# Altium footprint library UserPcbLib.PcbLib: 107 footprints (part 7 of 7)
Each footprint in its own frame and in the unit in brackets; x right, y up, seen from the top. Pads: shape width x height; smd on the part's side, far side on the other; paste and mask are expansions set on the pad; w line width, h text height; cw(c..) or ccw(c..) is an arc to the next point about the centre after c.
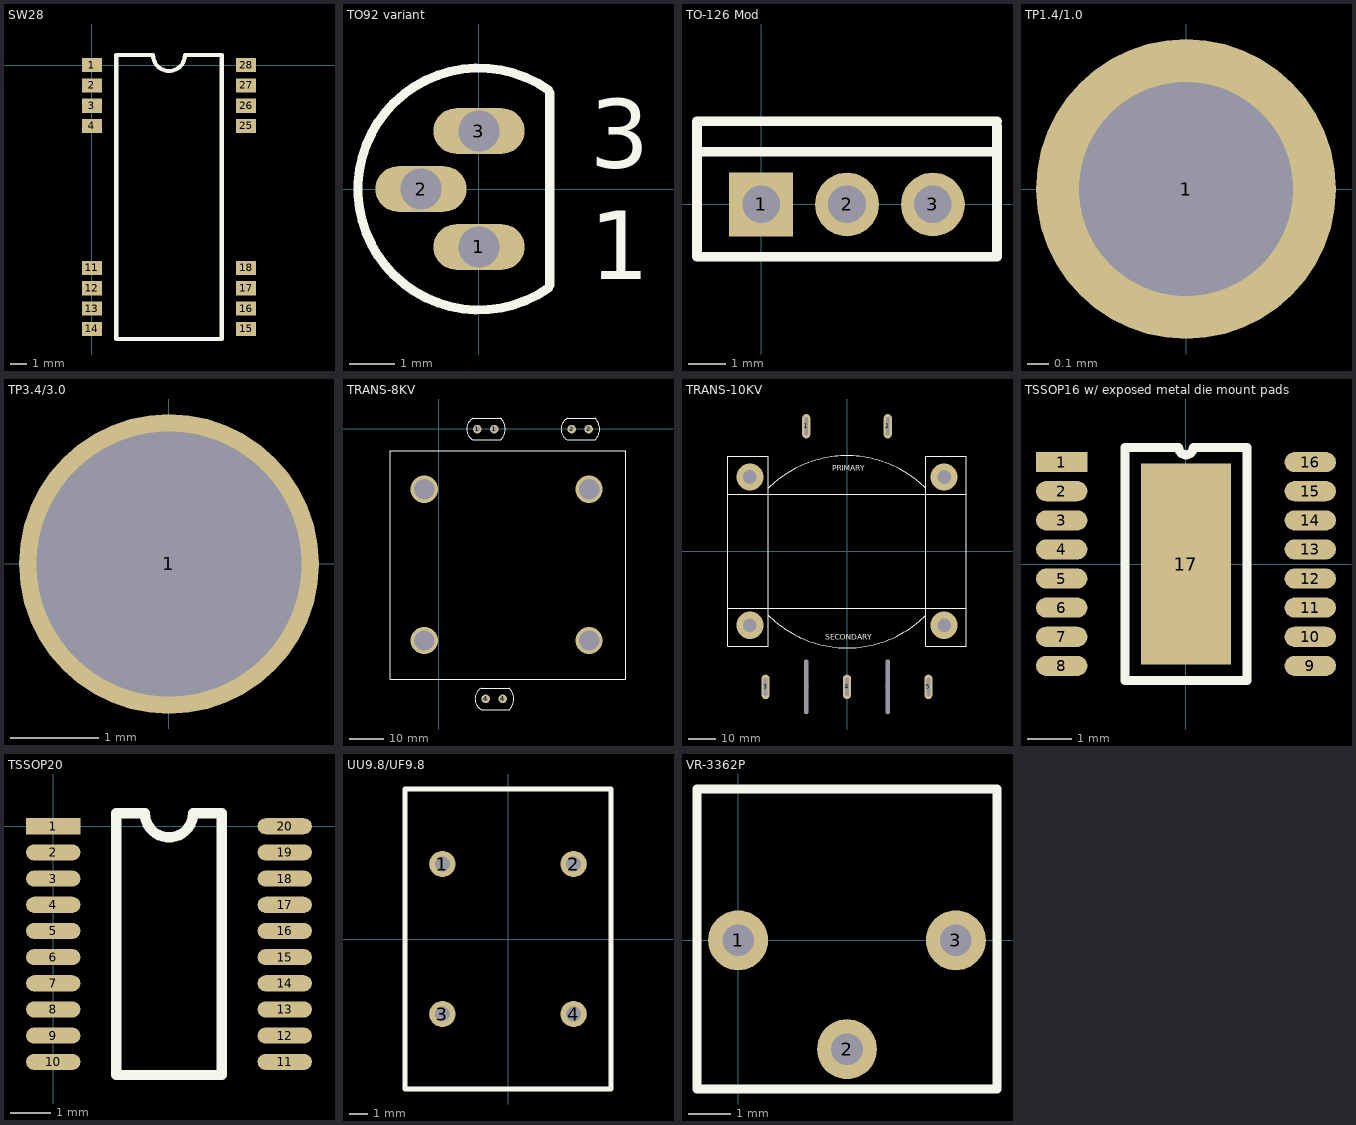
[diagram p6: the footprints below, top view; thin cyan lines are the x and y axes]

## SW28 [mil]
pads (16):
  rect 50x35 smd: 1(0,0) 2(0,-50) 3(0,-100) 4(0,-150) 11(0,-500) 12(0,-550) 13(0,-600) 14(0,-650) 15(380,-650) 16(380,-600) 17(380,-550) 18(380,-500) 25(380,-150) 26(380,-100) 27(380,-50) 28(380,0)
Top Overlay:
  lines w10: 149,25 60,25 60,-675 320,-675 320,25 231,25 ; 150.63,25 ccw(c190,25) 229.37,25

## TO92 variant [mm] "TO, Flat Index;  Axial Leads; Body Dia. 4.8mm; Leads 0.51 x 0.51 mm (max)"
height 5.33
pads (3):
  oval 2x1 hole 0.9: 1(0,-1.27) 2(-1.27,0) 3(0,1.27)
Top Overlay:
  lines w0.2: 1.52,-2.171 cw(c0,0) 1.52,2.171 ; 1.55,-2.1 1.55,2.1
  text "3" at 2.421,0.467 h1.5
  text "1" at 2.421,-1.979 h1.5

## TO-126 Mod [mm]
pads (3):
  rect 1.7x1.7 hole 1: 1(0,0)
  round 1.7 hole 1: 2(2.29,0) 3(4.58,0)
Top Overlay:
  lines w0.254: 6.29,2.096 6.29,1.4 ; 6.29,2.223 -1.71,2.223 -1.71,1.4 ; -1.71,1.4 6.29,1.4 ; -1.71,1.4 -1.71,-1.4 6.29,-1.4 6.29,1.4

## TP1.4/1.0 [mm]
pads (1):
  round 1.4 hole 1: 1(0,0)

## TP3.4/3.0 [mm]
pads (1):
  round 3.4 hole 3: 1(0,0)

## TRANS-8KV [mm] "High voltage transformer w/ centre tap"
height 52
pads (6):
  round 2.5 hole 1.5: 1(11.303,-0.127) 1(16.303,-0.127) 2(38.989,-0.127) 2(43.989,-0.127) 4(13.763,-79.248) 4(18.763,-79.248)
via -4.281,-17.724 diameter 8 hole 6
via 44.119,-17.724 diameter 8 hole 6
via -4.281,-62.124 diameter 8 hole 6
via 44.119,-62.124 diameter 8 hole 6
Top Overlay:
  lines w0.254: 18.216,-3.27 ccw(c15.073,-0.127) 18.216,3.016 ; 18.216,-3.261 10.016,-3.261 cw(c11.771,-0.127) 10.016,3.007 18.216,3.007 ; 20.676,-82.391 ccw(c17.533,-79.248) 20.676,-76.105 ; 20.676,-82.382 12.476,-82.382 cw(c14.231,-79.248) 12.476,-76.114 20.676,-76.114 ; 45.902,-3.27 ccw(c42.759,-0.127) 45.902,3.016 ; 45.902,-3.261 37.702,-3.261 cw(c39.457,-0.127) 37.702,3.007 45.902,3.007 ; -14.177,-73.524 -14.177,-6.524 54.823,-6.524 54.823,-73.524 -14.177,-73.524

## TRANS-10KV [mm] "Transformer 1:25 10KV output"
pads (7):
  round 1.524 hole 1.6 slot 20 at 90 deg unplated: 0(-15,-50) 0(15,-50)
  oval 3x9 hole 1.2 slot 6.6 at 90 deg: 1(-15,46) 2(15,46) 3(-30,-50) 4(0,-50) 5(30,-50)
via -35.75,27.3 diameter 10 hole 5
via 35.75,27.3 diameter 10 hole 5
via 35.75,-27.3 diameter 10 hole 5
via -35.75,-27.3 diameter 10 hole 5
Top Overlay:
  lines w0.2: -44,-21 44,-21 ; -44,21 44,21 ; -44,-35 -29,-35 -29,35 -44,35 -44,-35 ; 29,-35 29,34.925 44,34.925 44,-35 29,-35
  lines w0.254: -29,-23.622 ccw(c0.019,5.397) 29.039,-23.622 ; -29,23.114 cw(c0,-5.886) 29,23.114
  text "PRIMARY" at -5.461,29.591 h2
  text "SECONDARY" at -8.001,-32.639 h2

## TSSOP16 w/ exposed metal die mount pads [mm]
pads (17):
  rect 1.15x0.45 smd: 1(-2.775,2.275)
  oval 1.15x0.45 smd: 2(-2.775,1.625) 3(-2.775,0.975) 4(-2.775,0.325) 5(-2.775,-0.325) 6(-2.775,-0.975) 7(-2.775,-1.625) 8(-2.775,-2.275) 9(2.775,-2.275) 10(2.775,-1.625) 11(2.775,-0.975) 12(2.775,-0.325) 13(2.775,0.325) 14(2.775,0.975) 15(2.775,1.625) 16(2.775,2.275)
  rect 2x4.5 smd: 17(0,0)
Top Overlay:
  lines w0.2: -1.365,-2.6 -1.365,2.6 -0.162,2.6 ccw(c0,2.6) 0.162,2.6 1.365,2.6 1.365,-2.6 -1.365,-2.6

## TSSOP20 [mm]
pads (20):
  rect 1.35x0.4 smd: 1(0,0)
  oval 1.35x0.4 smd: 2(0,-0.65) 3(0,-1.3) 4(0,-1.95) 5(0,-2.6) 6(0,-3.25) 7(0,-3.9) 8(0,-4.55) 9(0,-5.2) 10(0,-5.85) 11(5.75,-5.85) 12(5.75,-5.2) 13(5.75,-4.55) 14(5.75,-3.9) 15(5.75,-3.25) 16(5.75,-2.6) 17(5.75,-1.95) 18(5.75,-1.3) 19(5.75,-0.65) 20(5.75,0)
Top Overlay:
  lines w0.254: 1.564,-6.175 4.186,-6.175 4.186,0.325 3.475,0.325 cw(c2.875,0.325) 2.275,0.325 1.564,0.325 1.564,-6.175

## UU9.8/UF9.8 [mm] "Balum"
height 16
pads (4):
  round 1.4 hole 0.8: 1(-3.5,4) 2(3.5,4) 3(-3.5,-4) 4(3.5,-4)
Top Overlay:
  lines w0.254: -5.5,-8 -5.5,8 5.5,8 5.5,-8 -5.5,-8
3D body: height 16, standoff 0, extent -5.639,-8.153 5.613,8.153

## VR-3362P [mm]
pads (3):
  round 1.4 hole 0.74: 1(0,0) 2(2.54,-2.54) 3(5.08,0)
Top Overlay:
  lines w0.2: 6.03,-3.47 -0.96,-3.47 -0.96,3.53 6.04,3.53 6.04,-3.47